# EAGLE library part RGBLED (library balto)
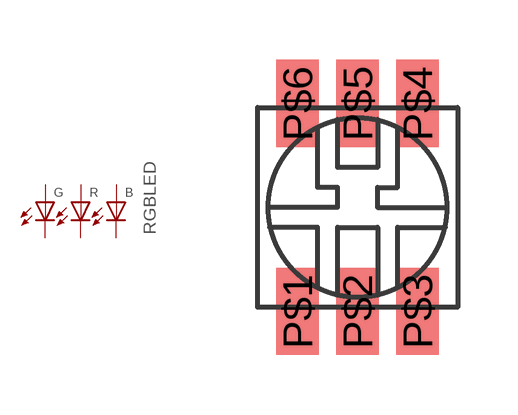
[diagram p5: symbol with the pads of RGBLED; footprint RGBLED]

Designator prefix LED

## RGBLED  [RGBLED]
P$1  P$1  pas
P$2  P$2  pas
P$3  P$3  pas
P$4  P$4  pas
P$5  P$5  pas
P$6  P$6  pas

## Footprint RGBLED (pad centres in mm)
smd 1.067 x 2.184: P$1 -1.5,-2.6; P$2 0,-2.6; P$3 1.5,-2.6; P$4 1.5,2.6; P$5 0,2.6; P$6 -1.5,2.6